# EAGLE library part SST25VF016B-50-4C-S2AF-T (library mbed-HDK-IC)
Serial Flash 16Mb 50 Mhz
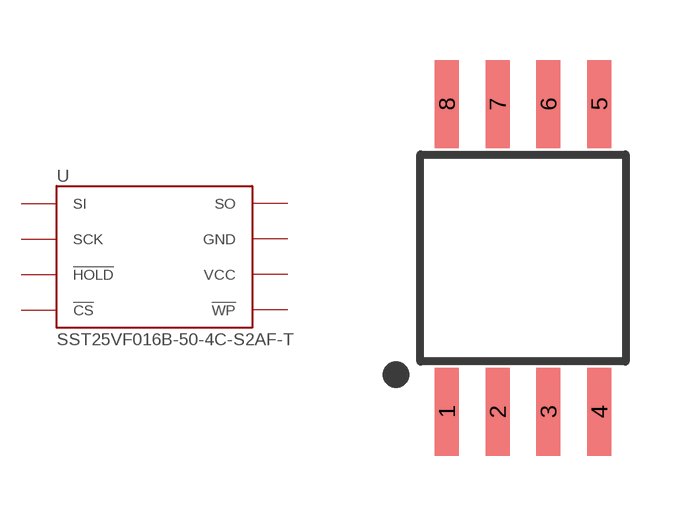
[diagram p27: symbol with the pads of SO8-WIDE; footprint SO8-WIDE]

Designator prefix U

## SST25VF016B-50-4C-S2AF-T (MF: Microchip; MFN: SST25VF016B-50-4C-S2AF-T; OC-DIGIKEY: SST25VF016B-50-4C-S2AF-TCT-ND; OC-MOUSER: 579-25VF016B5CS2AF-T)  [SO8-WIDE]
1  !CS
2  SO
3  !WP
4  GND
5  SI
6  SCK
7  !HOLD
8  VCC

## Footprint SO8-WIDE (pad centres in mm)
smd 0.6 x 2.2: 1 -1.905,-3.85; 2 -0.635,-3.85; 3 0.635,-3.85; 4 1.905,-3.85; 5 1.905,3.85; 6 0.635,3.85; 7 -0.635,3.85; 8 -1.905,3.85